# Altium schematic symbol library DTP.SchLib: 1 symbol
Pins are listed as number, name and electrical type; pins without a type are passive.

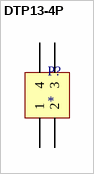
[diagram p0: symbol DTP13-4P]

## DTP13-4P
designator P?
pins: 1 (power) "Serial Data Input", 2 (power) "Serial Data Input", 3 (power) "Serial Data Input", 4 (power) "Serial Data Input"